# Altium footprint library DTM13-12PA.PcbLib: 2 footprints
Each footprint in its own frame and in the unit in brackets; x right, y up, seen from the top. Pads: shape width x height; smd on the part's side, far side on the other; paste and mask are expansions set on the pad; w line width, h text height; cw(c..) or ccw(c..) is an arc to the next point about the centre after c.
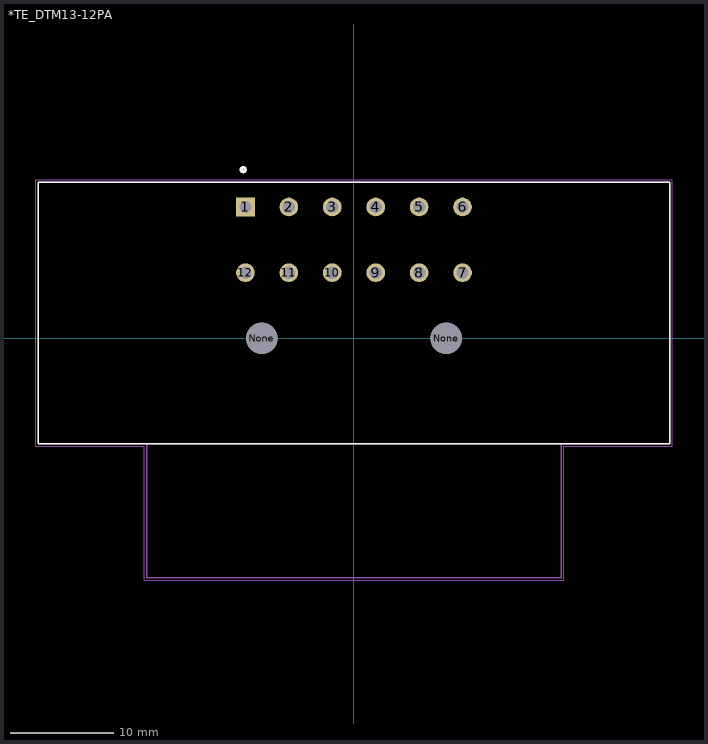
[diagram p0: the footprints below, top view; thin cyan lines are the x and y axes]

## *TE_DTM13-12PA [mm]
pads (14):
  rect 1.8x1.8 hole 1.2: 1(-10.48,12.7)
  round 1.8 hole 1.2: 2(-6.29,12.7) 3(-2.1,12.7) 4(2.1,12.7) 5(6.29,12.7) 6(10.48,12.7) 7(10.48,6.35) 8(6.29,6.35) 9(2.1,6.35) 10(-2.1,6.35) 11(-6.29,6.35) 12(-10.48,6.35)
  round 3.04 hole 3.04 unplated: None(-8.89,0) None(8.89,0)
Top Overlay:
  circle w0.3: c-10.7,16.3 r0.2
  lines w0.127: -30.48,-10.16 -30.48,15.1 30.48,15.1 30.48,-10.16 -30.48,-10.16
Mechanical 4:
  circle w0.3: c-10.7,16.3 r0.2
  circle w0.3: c-10.7,16.3 r0.2
  lines w0.127: -30.48,-10.16 -30.48,15.1 ; -30.48,-10.16 -20.005,-10.16 ; -30.48,-10.16 -30.48,15.1 ; -30.48,-10.16 -20.005,-10.16 ; -30.48,15.1 30.48,15.1 ; -30.48,15.1 30.48,15.1 ; -20.005,-23.11 -20.005,-10.16 ; -20.005,-23.11 20.005,-23.11 ; -20.005,-23.11 -20.005,-10.16 ; -20.005,-23.11 20.005,-23.11 ; -20.005,-10.16 20.005,-10.16 ; -20.005,-10.16 20.005,-10.16 ; 20.005,-23.11 20.005,-10.16 ; 20.005,-23.11 20.005,-10.16 ; 20.005,-10.16 30.48,-10.16 ; 20.005,-10.16 30.48,-10.16 ; 30.48,-10.16 30.48,15.1 ; 30.48,-10.16 30.48,15.1
Mechanical 16:
  lines w0.05: -30.73,-10.41 -30.73,15.35 30.73,15.35 30.73,-10.41 20.25,-10.41 20.25,-23.36 -20.25,-23.36 -20.25,-10.41 -30.73,-10.41

## PCBComponent_1 [mm]